# Altium footprint library PcbLib.PcbLib: 45 footprints (part 2 of 3)
Each footprint in its own frame and in the unit in brackets; x right, y up, seen from the top. Pads: shape width x height; smd on the part's side, far side on the other; paste and mask are expansions set on the pad; w line width, h text height; cw(c..) or ccw(c..) is an arc to the next point about the centre after c.
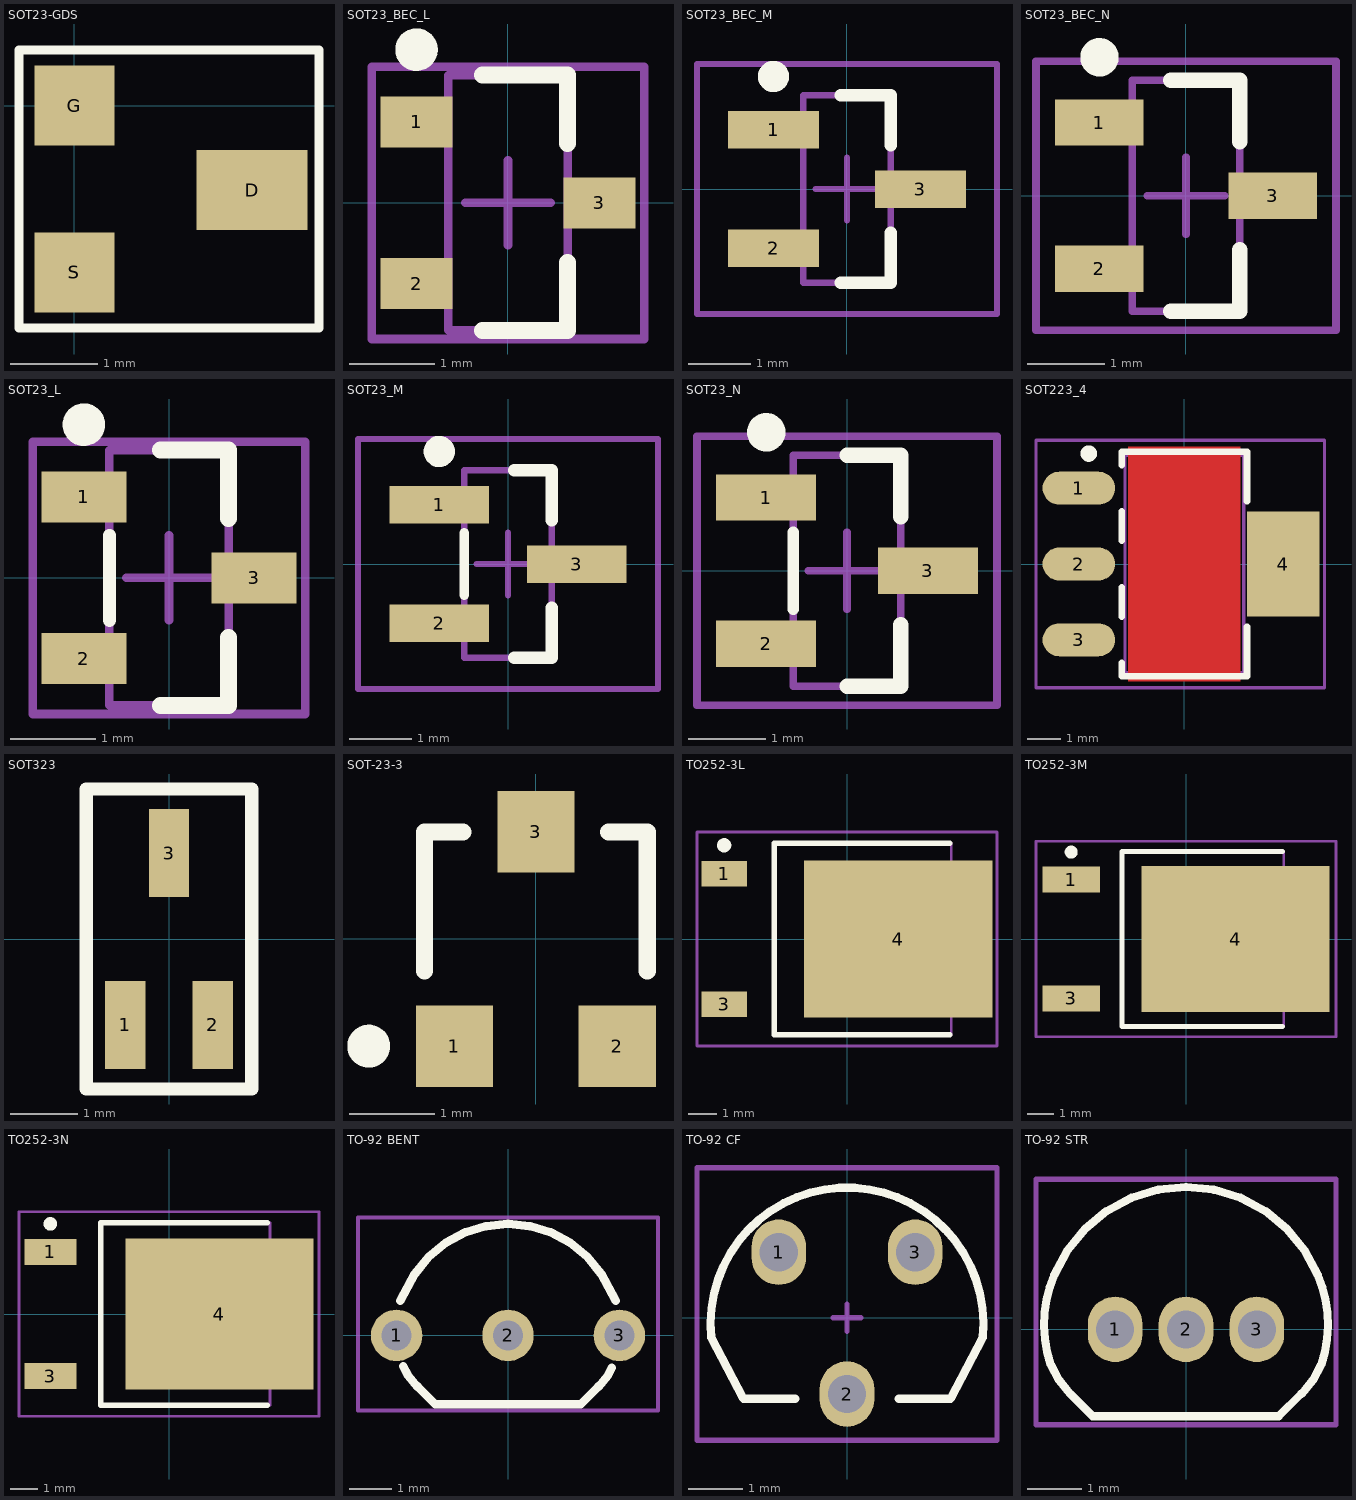
[diagram p1: the footprints below, top view; thin cyan lines are the x and y axes]

## SOT23-GDS [mil]
pads (3):
  rect 50x36 smd: D(80,-38)
  rect 36x36 smd: G(0,0) S(0,-75)
Top Overlay:
  lines w4: -24.88,11.02 -24.88,12.02 ; -24.88,15.02 -24.88,25.02 ; -10.88,25.02 -8.88,25.02 ; -9.88,25.02 -24.88,25.02 ; -24.88,25.02 -24.88,-99.98 110.12,-99.98 110.12,25.02 -24.88,25.02
3D body "SW3dPS-3-lead sot23-3.STEP": height 40.59, standoff 0.43, extent -3.48,-95 94,19.96

## SOT23_BEC_L [mm] "SOT23, 3-Leads, Body 2.9x1.3mm, Pitch 0.95mm, Lead Span 2.4mm, IPC High Density"
height 1.14
pads (3):
  rect 0.85x0.6 smd: 1(-1.075,0.95) 2(-1.075,-0.95) 3(1.075,0)
Top Overlay:
  circle w0.25: c-1.075,1.8 r0.125
  lines w0.2: -0.3,-1.5 0.7,-1.5 0.7,-0.7 ; -0.3,1.5 0.7,1.5 0.7,0.7
Mechanical 13:
  lines w0.1: -0.7,-1.5 -0.7,1.5 0.7,1.5 0.7,-1.5 -0.7,-1.5
Mechanical 15:
  lines w0.1: -0.5,0 0.5,0 ; 0,-0.5 0,0.5 ; -1.6,-1.6 -1.6,1.6 1.6,1.6 1.6,-1.6 -1.6,-1.6
3D body "User Library-N-MOS_BSS123_SOT23.STEP": height 1, standoff 0, extent -1.225,-1.45 1.075,1.45

## SOT23_BEC_M [mm] "SOT23, 3-Leads, Body 2.9x1.3mm, Pitch 0.95mm, Lead Span 2.4mm, IPC Low Density"
height 1.14
pads (3):
  rect 1.45x0.6 smd: 1(-1.175,0.95) 2(-1.175,-0.95) 3(1.175,0)
Top Overlay:
  circle w0.25: c-1.175,1.8 r0.125
  lines w0.2: -0.1,-1.5 0.7,-1.5 0.7,-0.7 ; -0.1,1.5 0.7,1.5 0.7,0.7
Mechanical 13:
  lines w0.1: -0.7,-1.5 0.7,-1.5 0.7,1.5 -0.7,1.5 -0.7,-1.5
Mechanical 15:
  lines w0.1: -0.5,0 0.5,0 ; 0,-0.5 0,0.5 ; -2.4,-2 2.4,-2 2.4,2 -2.4,2 -2.4,-2
3D body "User Library-N-MOS_BSS123_SOT23.STEP": height 1, standoff 0, extent -1.225,-1.45 1.075,1.45

## SOT23_BEC_N [mm] "SOT23, 3-Leads, Body 2.9x1.3mm, Pitch 0.95mm, Lead Span 2.4mm, IPC Medium Density"
height 1.14
pads (3):
  rect 1.15x0.6 smd: 1(-1.125,0.95) 2(-1.125,-0.95) 3(1.125,0)
Top Overlay:
  circle w0.25: c-1.125,1.8 r0.125
  lines w0.2: -0.2,-1.5 0.7,-1.5 0.7,-0.7 ; -0.2,1.5 0.7,1.5 0.7,0.7
Mechanical 13:
  lines w0.1: -0.7,-1.5 -0.7,1.5 0.7,1.5 0.7,-1.5 -0.7,-1.5
Mechanical 15:
  lines w0.1: -0.5,0 0.5,0 ; 0,-0.5 0,0.5 ; -1.95,-1.75 -1.95,1.75 1.95,1.75 1.95,-1.75 -1.95,-1.75
3D body "User Library-N-MOS_BSS123_SOT23.STEP": height 1, standoff 0, extent -1.225,-1.45 1.075,1.45

## SOT23_L [mm] "SOT23, 3-Leads, Body 2.9x1.3mm, Pitch 0.95mm, Lead Span 2.3mm, IPC High Density"
height 1.1
pads (3):
  rect 1x0.6 smd: 1(-1,0.95) 2(-1,-0.95) 3(1,0)
Top Overlay:
  circle w0.25: c-1,1.8 r0.125
  lines w0.15: -0.7,-0.5 -0.7,0.5
  lines w0.2: -0.1,-1.5 0.7,-1.5 0.7,-0.7 ; -0.1,1.5 0.7,1.5 0.7,0.7
Mechanical 13:
  lines w0.1: -0.7,-1.5 -0.7,1.5 0.7,1.5 0.7,-1.5 -0.7,-1.5
Mechanical 15:
  lines w0.1: -0.5,0 0.5,0 ; 0,-0.5 0,0.5 ; -1.6,-1.6 -1.6,1.6 1.6,1.6 1.6,-1.6 -1.6,-1.6
3D body "User Library-SOT-23-3-1.STEP": height 1.1, standoff 0, extent -1.271,-1.5 1.271,1.5

## SOT23_M [mm] "SOT23, 3-Leads, Body 2.9x1.3mm, Pitch 0.95mm, Lead Span 2.3mm, IPC Low Density"
height 1.1
pads (3):
  rect 1.6x0.6 smd: 1(-1.1,0.95) 2(-1.1,-0.95) 3(1.1,0)
Top Overlay:
  circle w0.25: c-1.1,1.8 r0.125
  lines w0.15: -0.7,-0.5 -0.7,0.5
  lines w0.2: 0.1,-1.5 0.7,-1.5 0.7,-0.7 ; 0.1,1.5 0.7,1.5 0.7,0.7
Mechanical 13:
  lines w0.1: -0.7,-1.5 -0.7,1.5 0.7,1.5 0.7,-1.5 -0.7,-1.5
Mechanical 15:
  lines w0.1: -0.5,0 0.5,0 ; 0,-0.5 0,0.5 ; -2.4,-2 -2.4,2 2.4,2 2.4,-2 -2.4,-2
3D body "User Library-SOT-23-3-1.STEP": height 1.1, standoff 0, extent -1.271,-1.5 1.271,1.5

## SOT23_N [mm] "SOT23, 3-Leads, Body 2.9x1.3mm, Pitch 0.95mm, Lead Span 2.3mm, IPC Medium Density"
height 1.1
pads (3):
  rect 1.3x0.6 smd: 1(-1.05,0.95) 2(-1.05,-0.95) 3(1.05,0)
Top Overlay:
  circle w0.25: c-1.05,1.8 r0.125
  lines w0.15: -0.7,-0.5 -0.7,0.5
  lines w0.2: 0,-1.5 0.7,-1.5 0.7,-0.7 ; 0,1.5 0.7,1.5 0.7,0.7
Mechanical 13:
  lines w0.1: -0.7,-1.5 -0.7,1.5 0.7,1.5 0.7,-1.5 -0.7,-1.5
Mechanical 15:
  lines w0.1: -0.5,0 0.5,0 ; 0,-0.5 0,0.5 ; -1.95,-1.75 -1.95,1.75 1.95,1.75 1.95,-1.75 -1.95,-1.75
3D body "User Library-SOT-23-3-1.STEP": height 1.1, standoff 0, extent -1.271,-1.5 1.271,1.5

## SOT223_4 [mm] "SOT223, 4-Leads, Body 6.5x3.5mm, Pitch 2.30mm-Designer Abbas Basereh"
height 1.8
pads (4):
  oval 2.2x1 smd: 1(-3.2,2.3) 2(-3.2,0) 3(-3.2,-2.3)
  rect 2.2x3.2 smd: 4(3,0)
Top Layer:
  pour cut-out: -1.7,3.556 1.7,3.556 1.7,-3.556 -1.7,-3.556
Top Overlay:
  circle w0.25: c-2.9,3.35 r0.125
  lines w0.2: -1.9,-3 -1.9,-3.4 1.9,-3.4 1.9,-1.9 ; -1.9,-1.6 -1.9,-0.7 ; -1.9,0.7 -1.9,1.6 ; -1.9,3 -1.9,3.4 1.9,3.4 1.9,1.9
Mechanical 13:
  lines w0.1: -1.8,-3.3 -1.8,3.3 1.8,3.3 1.8,-3.3 -1.8,-3.3
Mechanical 15:
  lines w0.1: -0.5,0 0.5,0 ; 0,-0.5 0,0.5 ; -4.5,-3.75 4.25,-3.75 4.25,3.75 -4.5,3.75 -4.5,-3.75
3D body "User Library-SOT223-3.step": height 1.7, standoff 0, extent -3.5,-3.25 3.5,3.25

## SOT323 [mm] "SOT323, 3 pins"
height 1.2
pads (3):
  rect 0.6x1.3 smd: 1(-0.65,-1.275) 2(0.65,-1.275) 3(0,1.275)
Top Overlay:
  lines w0.2: -1.225,-2.225 1.225,-2.225 1.225,2.225 -1.225,2.225 -1.225,-2.225
3D body "SOT323.STEP": height 1.05, standoff -0.02, extent -1,-1.05 1,1.05

## SOT-23-3 [mm] "SOT-23; 3 Leads; Body 3.0 x 2.6 mm, inc. leads (LxW max)"
height 1.11
pads (3):
  rect 0.9x0.95 smd: 1(-0.95,-1.25) 2(0.95,-1.25) 3(0,1.25)
Top Overlay:
  circle w0.25: c-1.95,-1.25 r0.125
  lines w0.2: -1.3,-0.375 -1.3,1.25 -0.85,1.25 ; 0.85,1.25 1.3,1.25 1.3,-0.375
3D body "User Library-SOT23-2.STEP": height 1.08, standoff 0, extent -1.5,-1.193 1.5,1.447

## TO252-3L [mm] "D-PAK, 3-Pads, Body 6.2x6.7mm (max), IPC High Density"
height 2.38
pads (3):
  rect 1.6x0.9 smd: 1(-4.3,2.28) 3(-4.3,-2.28)
  rect 6.6x5.5 smd: 4(1.8,0)
Top Overlay:
  circle w0.25: c-4.3,3.28 r0.125
  lines w0.2: 3.6,-3.35 -2.55,-3.35 -2.55,3.35 3.6,3.35
Mechanical 13:
  lines w0.1: -2.55,-3.35 -2.55,3.35 3.65,3.35 3.65,-3.35 -2.55,-3.35
Mechanical 15:
  lines w0.1: -0.5,0 0.5,0 ; 0,-0.5 0,0.5 ; -5.25,-3.75 -5.25,3.75 5.25,3.75 5.25,-3.75 -5.25,-3.75
3D body "User Library-DPAK-1.step": height 2.39, standoff -0.02, extent -5.061,-3.27 4.878,3.27

## TO252-3M [mm] "D-PAK, 3-Pads, Body 6.2x6.7mm (max), IPC Low Density"
height 2.38
pads (3):
  rect 2.2x1 smd: 1(-4.4,2.28) 3(-4.4,-2.28)
  rect 7.2x5.6 smd: 4(1.9,0)
Top Overlay:
  circle w0.25: c-4.4,3.33 r0.125
  lines w0.2: 3.7,-3.35 -2.45,-3.35 -2.45,3.35 3.7,3.35
Mechanical 13:
  lines w0.1: -2.45,-3.35 3.75,-3.35 3.75,3.35 -2.45,3.35 -2.45,-3.35
Mechanical 15:
  lines w0.1: -0.5,0 0.5,0 ; 0,-0.5 0,0.5 ; -5.75,-3.75 -5.75,3.75 5.75,3.75 5.75,-3.75 -5.75,-3.75
3D body "User Library-DPAK-1.step": height 2.39, standoff -0.02, extent -5.061,-3.27 4.878,3.27

## TO252-3N [mm] "D-PAK, 3-Pads, Body 6.2x6.7mm (max), IPC Medium Density"
height 2.38
pads (3):
  rect 1.9x0.95 smd: 1(-4.35,2.28) 3(-4.35,-2.28)
  rect 6.9x5.55 smd: 4(1.85,0)
Top Overlay:
  circle w0.25: c-4.35,3.305 r0.125
  lines w0.2: 3.6,-3.35 -2.5,-3.35 -2.5,3.35 3.6,3.35
Mechanical 13:
  lines w0.1: -2.5,-3.35 3.7,-3.35 3.7,3.35 -2.5,3.35 -2.5,-3.35
Mechanical 15:
  lines w0.1: -0.5,0 0.5,0 ; 0,-0.5 0,0.5 ; -5.5,-3.75 5.5,-3.75 5.5,3.75 -5.5,3.75 -5.5,-3.75
3D body "User Library-DPAK-1.step": height 2.39, standoff -0.02, extent -5.061,-3.27 4.878,3.27

## TO-92 BENT [mm] "DESIGNER :ABBAS BASEREH"
height 8
pads (3):
  round 1.2 hole 0.7: 1(-2.6,0) 2(0,0) 3(2.6,0)
Top Overlay:
  lines w0.2: -2.512,0.806 -2.173,1.441 -1.848,1.837 -1.452,2.162 -1,2.403 -0.51,2.552 0,2.602 0.51,2.552 1,2.403 1.452,2.162 1.848,1.837 2.173,1.441 2.512,0.806 ; -2.443,-0.723 -2.326,-0.941 -2.118,-1.195 -2.112,-1.189 -1.7,-1.601 1.7,-1.601 2.112,-1.189 2.118,-1.195 2.326,-0.941 2.424,-0.759
Mechanical 15:
  lines w0.1: -3.5,-1.75 -3.5,2.75 3.5,2.75 3.5,-1.75 -3.5,-1.75
3D body "User Library-TO-92_Bent.STEP": height 10, standoff -3, extent -2.79,-1.59 2.79,2.613

## TO-92 CF [mm] "DESIGNER :ABBAS BASEREH"
height 8.5
pads (3):
  oval 1x1.2 hole 0.7: 1(-1.25,1.2) 2(0,-1.4) 3(1.25,1.2)
Top Overlay:
  lines w0.15: -0.95,-1.485 -1.9,-1.485 -2.487,-0.365 cw(c0,-0.115) 2.487,-0.365 1.9,-1.485 0.95,-1.485
Mechanical 15:
  lines w0.1: -0.25,0 0.25,0 ; 0,-0.25 0,0.25 ; -2.75,-2.25 2.75,-2.25 2.75,2.75 -2.75,2.75 -2.75,-2.25
3D body "User Library-TO-92_CF127SB127.STEP": height 8.5, standoff -4, extent -2.5,-1.57 2.5,2.4

## TO-92 STR [mm] "DESIGNER :ABBAS BASEREH"
height 7
pads (3):
  oval 1x1.2 hole 0.7 mask+0.06: 1(-1.3,0) 2(0,0) 3(1.3,0)
Top Overlay:
  lines w0.15: -2.481,-0.642 cw(c-0.325,0.092) -2.414,0.999 -2.173,1.45 -1.848,1.846 -1.452,2.171 -1,2.413 -0.51,2.562 0,2.612 0.51,2.562 1,2.413 1.452,2.171 1.848,1.846 2.173,1.45 2.414,0.999 cw(c0.325,0.092) 2.481,-0.642 2.326,-0.931 2.118,-1.185 2.112,-1.18 1.7,-1.592 -1.712,-1.592 -2.118,-1.185 -2.326,-0.931 -2.481,-0.642
Mechanical 15:
  lines w0.1: -2.75,-1.75 2.75,-1.75 2.75,2.75 -2.75,2.75 -2.75,-1.75
3D body "User Library-TO-92_Str.STEP": height 10, standoff -3, extent -2.613,-1.591 2.613,2.613